# Altium schematic symbol library C0603C101J5HACAUTO.SchLib: 2 symbols
Pins are listed as number, name and electrical type; pins without a type are passive.

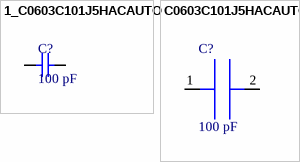
[diagram p0: symbols 1_C0603C101J5HACAUTO to C0603C101J5HACAUTO]

## 1_C0603C101J5HACAUTO
designator C?, comment 100 pF
SMD ceramic Capacitor 0603, 50V, +/-5%, C0G
footprint C0603C101J5HACAUTO (Capacitor Cerámico SMD 0603, 50V, +/-5%, C0G)
pins: 1, 2

## C0603C101J5HACAUTO
designator C?, comment 100 pF
Capacitor Cerámico SMD 0603, 50V, +/-5%, C0G
footprint C0603C101J5HACAUTO (Capacitor Cerámico SMD 0603, 50V, +/-5%, C0G)
pins: 1, 2